# Altium schematic symbol library L6924D.SchLib: 1 symbol
Pins are listed as number, name and electrical type; pins without a type are passive.

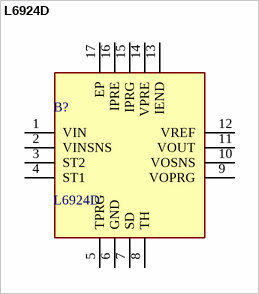
[diagram p0: symbol L6924D]

## L6924D
designator B?
L6924D, Battery Charge Controller, Lithium-Ion, Lithium-Polymer, 16-Pin VFQFPN; Manufacturer_Name: STMicroelectronics; Geometry.Height: 1mm; Manufacturer_Part_Number: L6924D; Mouser Part Number: 511-L6924D; Mouser Price/Stock: https://www.mouser.co.uk/ProductDetail/STMicroelectronics/L6924D?qs=riAxU6JNBCurDvJ0HuYhNA%3D%3D; Arrow Part Number: *; Arrow Price/Stock: *; Datasheet Link: http://www.st.com/st-web-ui/static/active/en/resource/technical/document/datasheet/CD00079821.pdf
footprint QFN50P300X300X100-17N-D
pins: 1 VIN, 2 VINSNS, 3 ST2, 4 ST1, 5 TPRG, 6 GND, 7 SD, 8 TH, 9 VOPRG, 10 VOSNS, 11 VOUT, 12 VREF, 13 IEND, 14 VPRE, 15 IPRG, 16 IPRE, 17 EP